# Altium footprint library RM6_trans.PcbLib: 1 footprints
Each footprint in its own frame and in the unit in brackets; x right, y up, seen from the top. Pads: shape width x height; smd on the part's side, far side on the other; paste and mask are expansions set on the pad; w line width, h text height; cw(c..) or ccw(c..) is an arc to the next point about the centre after c.
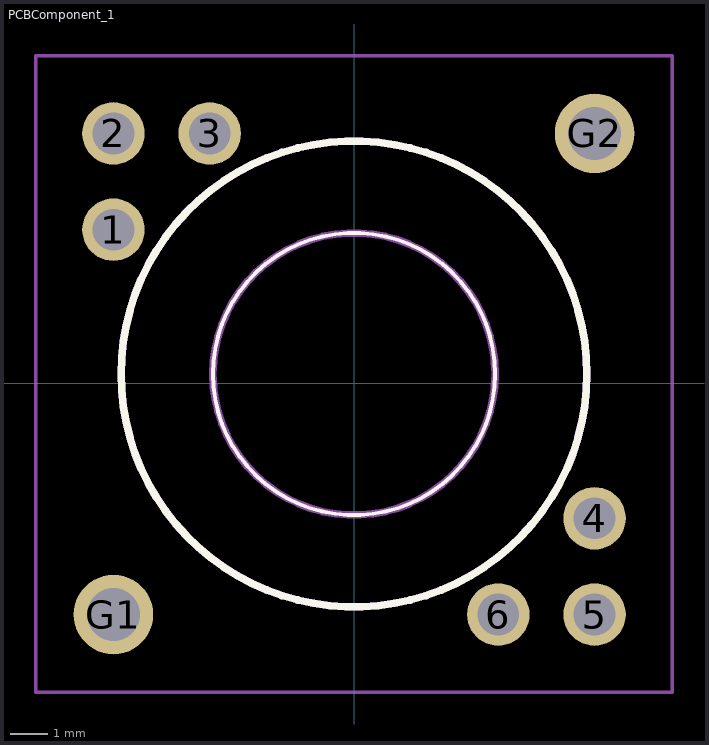
[diagram p0: the footprint, top view; thin cyan lines are the x and y axes]

## PCBComponent_1 [mm]
pads (8):
  round 1.65 hole 1.1: 1(-6.36,4.06) 2(-6.36,6.6) 3(-3.82,6.6) 4(6.34,-3.56) 5(6.34,-6.1) 6(3.8,-6.1)
  round 2.1 hole 1.4: G1(-6.36,-6.1) G2(6.34,6.6)
Top Overlay:
  lines w0.1: -3.735,0.25 ccw(c-0.01,0.25) 3.715,0.25 ccw(c-0.01,0.25) -3.735,0.25
  lines w0.2: -6.16,0.25 ccw(c-0.01,0.25) 6.14,0.25 ccw(c-0.01,0.25) -6.16,0.25
Top Assembly:
  lines w0.2: -6.16,0.25 ccw(c-0.01,0.25) 6.14,0.25 ccw(c-0.01,0.25) -6.16,0.25 ; -3.735,0.25 ccw(c-0.01,0.25) 3.715,0.25 ccw(c-0.01,0.25) -3.735,0.25
Top Courtyard:
  lines w0.1: -8.41,-8.15 8.39,-8.15 8.39,8.65 -8.41,8.65 -8.41,-8.15
3D body "B65808N1006D001.stp": height 8.64, standoff -5.01, extent -11.486,-11.196 11.466,11.756